# Altium schematic symbol library SPST_SIL_NO.SchLib: 1 symbol
Pins are listed as number, name and electrical type; pins without a type are passive.

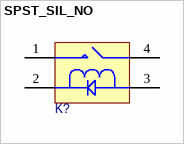
[diagram p0: symbol SPST_SIL_NO]

## SPST_SIL_NO
designator K?
pins: 1, 2 +, 3 -, 4